# Altium schematic symbol library RF-Amplifiers.SchLib: 1 symbol
Pins are listed as number, name and electrical type; pins without a type are passive.

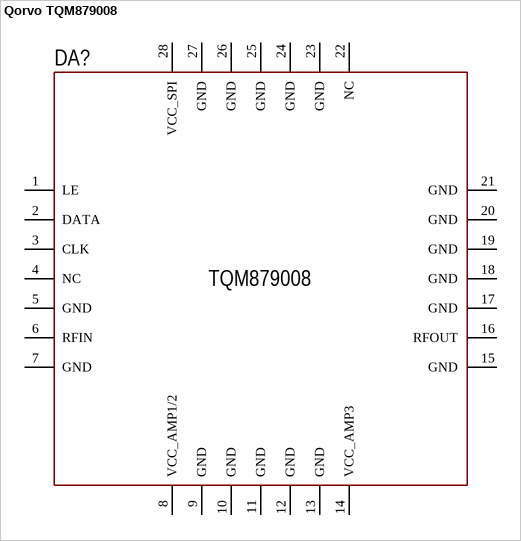
[diagram p0: symbol Qorvo TQM879008]

## Qorvo TQM879008
designator DA?, comment TQM879008
1500 - 2700 MHz, 0.5 Watt Serial Controlled Digital Variable Gain Amplifier, 6-Bit, 0.5 dB Steps, Packaged
footprint QFN-28 (QFN, 28-Leads, Body 6.00x6.00mm, Pitch 0.70mm, Thermal Pad 4.20x4.20mm, IPC Medium Density)
pins: 0 hidden to GND, 1 LE, 2 DATA, 3 CLK, 4 NC, 5 GND, 6 RFIN, 7 GND, 8 VCC_AMP1/2, 9 GND, 10 GND, 11 GND, 12 GND, 13 GND, 14 VCC_AMP3, 15 GND, 16 RFOUT, 17 GND, 18 GND, 19 GND, 20 GND, 21 GND, 22 NC, 23 GND, 24 GND, 25 GND, 26 GND, 27 GND, 28 VCC_SPI